# Altium schematic symbol library SAW8_1_5.Schlib: 1 symbol
Pins are listed as number, name and electrical type; pins without a type are passive.

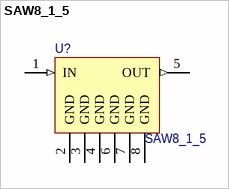
[diagram p0: symbol SAW8_1_5]

## SAW8_1_5
designator U?
pins: 1 IN (in), 2 GND (power), 3 GND (power), 4 GND (power), 5 OUT (out), 6 GND (power), 7 GND (power), 8 GND (power)